# Altium footprint library Barun Gas Control.PcbLib: 16 footprints
Each footprint in its own frame and in the unit in brackets; x right, y up, seen from the top. Pads: shape width x height; smd on the part's side, far side on the other; paste and mask are expansions set on the pad; w line width, h text height; cw(c..) or ccw(c..) is an arc to the next point about the centre after c.
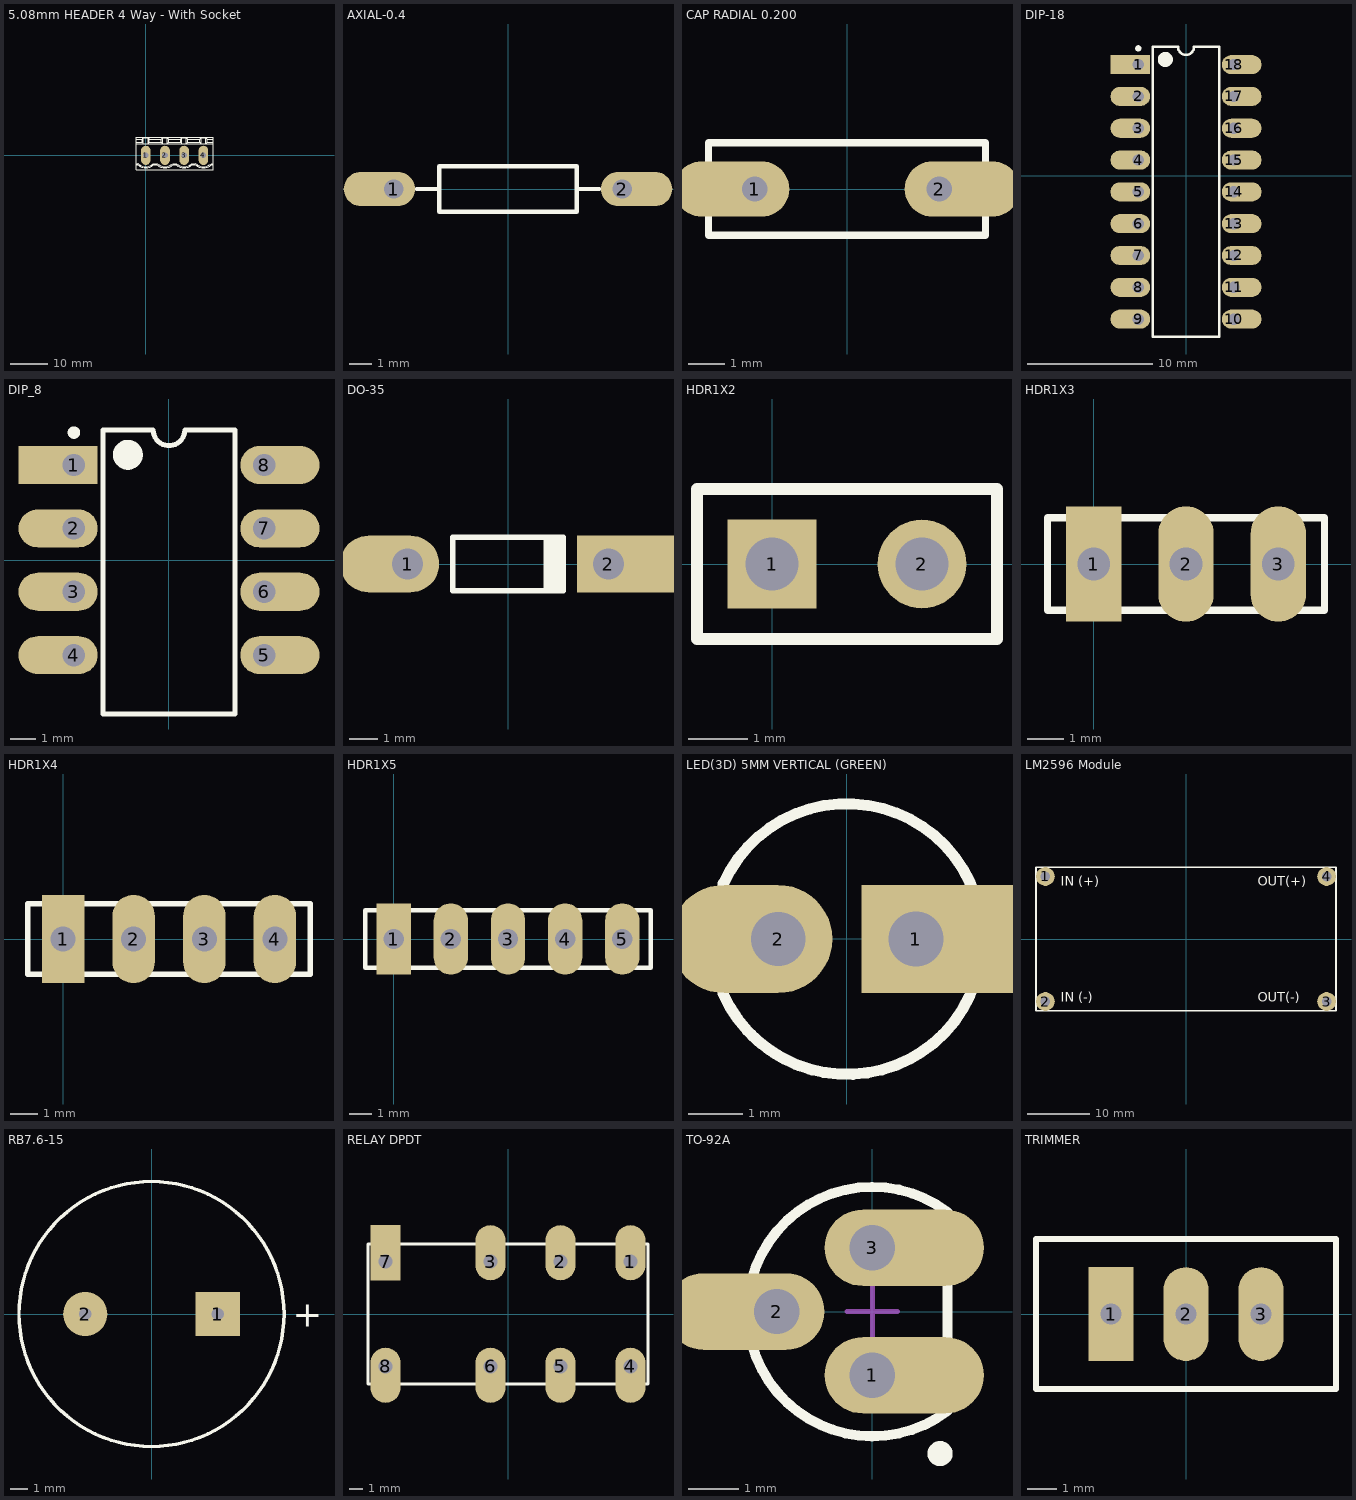
[diagram p0: the footprints below, top view; thin cyan lines are the x and y axes]

## 5.08mm HEADER 4 Way - With Socket [mm] "PHOENIX CONTACT 1758034 & 1758035"
pads (4):
  oval 2.54x5.08 hole 1.5: 1(0,0) 2(5.08,0) 3(10.16,0) 4(15.24,0)
Top Overlay:
  lines w0.127: -2.54,-2.491 -2.154,-2.491 ; -2.54,-2.491 -2.54,-2.191 ; -2.54,-2.491 -2.54,-3.861 -1.5,-3.861 1.5,-3.861 3.58,-3.861 6.58,-3.861 8.66,-3.861 11.66,-3.861 13.74,-3.861 16.74,-3.861 17.78,-3.861 17.78,-2.491 ; -2.54,-2.191 -2.04,-2.191 ; -2.54,-2.191 -2.54,-0.192 -2.54,0.009 -2.54,0.21 -2.54,3.103 ; -2.54,3.103 -2.54,3.414 ; -2.54,3.103 -0.644,3.103 ; -2.54,3.414 -2.54,3.809 -2.54,4.239 ; -2.54,3.414 -0.975,3.414 ; -2.54,4.239 -0.975,4.239 ; -2.54,4.239 -2.54,4.739 17.78,4.739 17.78,4.239 ; -2.154,-2.491 ccw(c0,0.009) 2.154,-2.491 ; -2.154,-2.491 -2.126,-2.415 -2.098,-2.341 cw(c13.682,-8.357) -2.04,-2.191 ; -2.04,-2.191 ccw(c0,0.009) 2.04,-2.191 ; -0.975,3.414 -0.644,3.103 ; -0.975,3.414 -0.975,4.239 ; -0.975,4.239 -0.605,4.712 ; -0.644,3.103 -0.605,3.103 ; -0.605,3.103 0.605,3.103 ; -0.605,3.103 -0.605,4.712 ; -0.605,4.712 0.605,4.712 ; 0.605,3.103 0.644,3.103 ; 0.605,3.103 0.605,4.712 ; 0.605,4.712 0.975,4.239 ; 0.644,3.103 0.975,3.414 ; 0.644,3.103 4.436,3.103 ; 0.975,3.414 0.975,4.239 ; 0.975,3.414 4.105,3.414 ; 0.975,4.239 4.105,4.239 ; 2.04,-2.191 3.04,-2.191 ; 2.04,-2.191 2.069,-2.265 2.098,-2.341 cw(c-15.111,-8.902) 2.154,-2.491 ; 2.154,-2.491 2.926,-2.491 ; 2.926,-2.491 ccw(c5.08,0.009) 7.234,-2.491 ; 2.926,-2.491 2.954,-2.416 2.982,-2.341 cw(c18.814,-8.377) 3.04,-2.191 ; 3.04,-2.191 ccw(c5.08,0.009) 7.12,-2.191 ; 4.105,3.414 4.436,3.103 ; 4.105,3.414 4.105,4.239 ; 4.105,4.239 4.475,4.712 ; 4.436,3.103 4.475,3.103 ; 4.475,3.103 5.685,3.103 ; 4.475,3.103 4.475,4.712 ; 4.475,4.712 5.685,4.712 ; 5.685,3.103 5.724,3.103 ; 5.685,3.103 5.685,4.712 ; 5.685,4.712 6.055,4.239 ; 5.724,3.103 6.055,3.414 ; 5.724,3.103 9.516,3.103 ; 6.055,3.414 9.185,3.414 ; 6.055,3.414 6.055,4.239 ; 6.055,4.239 9.185,4.239 ; 7.12,-2.191 8.12,-2.191 ; 7.12,-2.191 7.149,-2.265 7.178,-2.341 cw(c-10.031,-8.902) 7.234,-2.491 ; 7.234,-2.491 8.006,-2.491 ; 8.006,-2.491 ccw(c10.16,0.009) 12.314,-2.491 ; 8.006,-2.491 8.034,-2.415 8.062,-2.341 cw(c23.842,-8.357) 8.12,-2.191 ; 8.12,-2.191 ccw(c10.16,0.009) 12.2,-2.191 ; 9.185,3.414 9.516,3.103 ; 9.185,3.414 9.185,4.239 ; 9.185,4.239 9.555,4.712 ; 9.516,3.103 9.555,3.103 ; 9.555,3.103 10.765,3.103 ; 9.555,3.103 9.555,4.712 ; 9.555,4.712 10.765,4.712 ; 10.765,3.103 10.804,3.103 ; 10.765,3.103 10.765,4.712 ; 10.765,4.712 11.135,4.239 ; 10.804,3.103 14.596,3.103 ; 10.804,3.103 11.135,3.414 ; 11.135,3.414 14.265,3.414 ; 11.135,3.414 11.135,4.239 ; 11.135,4.239 14.265,4.239 ; 12.2,-2.191 13.2,-2.191 ; 12.2,-2.191 12.229,-2.265 12.258,-2.341 cw(c-4.951,-8.902) 12.314,-2.491 ; 12.314,-2.491 13.086,-2.491 ; 13.086,-2.491 ccw(c15.24,0.009) 17.394,-2.491 ; 13.086,-2.491 13.114,-2.415 13.142,-2.341 cw(c28.922,-8.357) 13.2,-2.191 ; 13.2,-2.191 ccw(c15.24,0.009) 17.28,-2.191 ; 14.265,3.414 14.596,3.103 ; 14.265,3.414 14.265,4.239 ; 14.265,4.239 14.635,4.712 ; 14.596,3.103 14.635,3.103 ; 14.635,3.103 15.845,3.103 ; 14.635,3.103 14.635,4.712 ; 14.635,4.712 15.845,4.712 ; 15.845,3.103 15.884,3.103 ; 15.845,3.103 15.845,4.712 ; 15.845,4.712 16.215,4.239 ; 15.884,3.103 17.78,3.103 ; 15.884,3.103 16.215,3.414 ; 16.215,3.414 17.78,3.414 ; 16.215,3.414 16.215,4.239 ; 16.215,4.239 17.78,4.239 ; 17.28,-2.191 17.78,-2.191 ; 17.28,-2.191 17.309,-2.265 17.338,-2.341 cw(c0.196,-8.877) 17.394,-2.491 ; 17.394,-2.491 17.78,-2.491 ; 17.78,-2.491 17.78,-2.191 ; 17.78,-2.191 17.78,0.459 17.78,0.659 17.78,0.784 17.78,0.934 17.78,1.398 17.78,1.577 17.78,1.615 17.78,1.642 17.78,1.727 17.78,1.937 17.78,2.021 17.78,2.049 17.78,2.087 17.78,2.099 17.78,2.266 17.78,3.002 17.78,3.103 ; 17.78,3.103 17.78,3.109 17.78,3.309 17.78,3.414 ; 17.78,3.414 17.78,3.809 17.78,4.239
3D body: height 11.6, standoff -4.3, extent -2.54,-3.861 17.78,4.739
3D body: height 22, standoff 3.8, extent -2.54,-3.861 17.78,11.139

## AXIAL-0.4 [mil] "Axial Device, Thru-Hole; 2 Leads; 0.4 in Pin Spacing"
height 80
pads (2):
  oval 125x60 hole 33.46 copper offset -25,0: 1(-200,0)
  oval 125x60 hole 33.46 copper offset 25,0: 2(200,0)
Top Overlay:
  lines w7.87: -160,0 -120,0 ; 120,0 160,0 ; -120,-40 -120,40 120,40 120,-40 -120,-40

## CAP RADIAL 0.200 [mil]
pads (2):
  oval 125x60 hole 27.56 copper offset -25,0: 1(-100,0)
  oval 125x60 hole 27.56 copper offset 25,0: 2(100,0)
Top Overlay:
  lines w7.87: -150,-50 150,-50 150,50 -150,50 -150,-50
3D body: height 257.48, standoff -98.43, extent -109.84,-49.21 106.7,49.22

## DIP-18 [mil]
pads (18):
  rect 125x60 hole 35.43 copper offset -25,0: 1(-150,350)
  oval 125x60 hole 35.43 copper offset -25,0: 2(-150,250) 3(-150,150) 4(-150,50) 5(-150,-50) 6(-150,-150) 7(-150,-250) 8(-150,-350) 9(-150,-450)
  oval 125x60 hole 35.43 copper offset 25,0: 10(150,-450) 11(150,-350) 12(150,-250) 13(150,-150) 14(150,-50) 15(150,50) 16(150,150) 17(150,250) 18(150,350)
Top Overlay:
  circle w23.62: c-64.96,366.14 r11.81
  circle w9.84: c-150,401.18 r4.92
  lines w7.87: 104.33,-405.51 104.33,405.51 25,405.51 cw(c0,405.51) -25,405.51 -104.33,405.51 -104.33,-405.51 -104.33,-505.51 ; 104.33,-400 104.33,-505.51 ; -104.33,-505.51 104.33,-505.51 ; -104.33,-505.51 104.33,-505.51
3D body: height 211, standoff -61.41, extent -160.57,-510.24 168.69,409.76

## DIP_8 [mil]
pads (8):
  rect 125x60 hole 35.43 copper offset -25,0: 1(-150,150)
  oval 125x60 hole 35.43 copper offset -25,0: 2(-150,50) 3(-150,-50) 4(-150,-150)
  oval 125x60 hole 35.43 copper offset 25,0: 5(150,-150) 6(150,-50) 7(150,50) 8(150,150)
Top Overlay:
  circle w9.84: c-150,201.18 r4.92
  circle w23.62: c-64.96,166.14 r11.81
  lines w7.87: -104.33,-147.64 -104.33,205.51 -25,205.51 ccw(c0,205.51) 25,205.51 104.33,205.51 104.33,-137.4 104.33,-242.91 ; -104.33,-142.91 -104.33,-242.91 ; -104.33,-242.91 104.33,-242.91 ; -104.33,-242.91 104.33,-242.91
3D body: height 174.84, standoff -95.16, extent -155,-225 155,225

## DO-35 [mm] "Diode, Axial; Body 3.8 x 1.9 mm (LxDia. max), Lead Dia. 0.53 mm (max)"
height 1.9
pads (2):
  oval 3.5x2 hole 1.1 copper offset -0.635,0: 1(-3.55,0)
  rect 3.5x2 hole 1.1 copper offset 0.635,0: 2(3.55,0)
Top Overlay:
  rectangle: 1.25,-0.95 2.05,0.95
  lines w0.2: 1.95,-0.95 -1.95,-0.95 -1.95,0.95 1.95,0.95

## HDR1X2 [mm] "Connector; Header; 2 Position"
pads (2):
  rect 1.5x1.5 hole 0.9: 1(0,0)
  round 1.5 hole 0.9: 2(2.54,0)
Top Overlay:
  lines w0.2: -1.27,-1.27 3.81,-1.27 3.81,1.27 -1.27,1.27 -1.27,-1.27

## HDR1X3 [mil] "Connector; Header; 3 Position"
pads (3):
  rect 60x125 hole 35.43: 1(0,0)
  oval 60x125 hole 35.43: 2(100,0) 3(200,0)
Top Overlay:
  lines w7.87: -50,-50 250,-50 250,50 -50,50 -50,-50

## HDR1X4 [mil] "Connector; Header; 4 Position"
pads (4):
  rect 60x125 hole 35.43: 1(0,0)
  oval 60x125 hole 35.43: 2(100,0) 3(200,0) 4(300,0)
Top Overlay:
  lines w7.87: -50,-50 350,-50 350,50 -50,50 -50,-50

## HDR1X5 [mil] "Connector; Header; 5 Position"
pads (5):
  rect 60x125 hole 35.43: 1(0,0)
  oval 60x125 hole 35.43: 2(100,0) 3(200,0) 4(300,0) 5(400,0)
Top Overlay:
  lines w7.87: -50,-50 450,-50 450,50 -50,50 -50,-50

## LED(3D) 5MM VERTICAL (GREEN) [mm]
pads (2):
  rect 3x2 hole 1.016 copper offset 0.5,0: 1(1.272,-0.007)
  oval 3x2 hole 1 copper offset -0.5,0: 2(-1.268,-0.007)
Top Overlay:
  lines w0.203: -2.281,-1.016 -2.286,-1.016 ; -1.766,-1.775 ccw(c0.002,-0.007) 1.769,-1.775 ; -2.286,-1.016 ccw(c0.002,-0.007) -2.281,1.014 -2.286,1.014 -2.286,-1.016
3D body: height 10.5, standoff 5.5, extent -2.5,-2.479 2.474,2.5
3D body: height 8, standoff 4, extent -2.503,-2.49 2.477,2.5
3D body: height 4, standoff -2, extent -1.65,-0.25 -0.9,0.25
3D body: height 4, standoff -2, extent 0.9,-0.25 1.65,0.25

## LM2596 Module [mm]
height 1.2
pads (4):
  round 3 hole 1.524: 1(-22.5,10) 2(-22.5,-10) 3(22.5,-10) 4(22.5,10)
Top Overlay:
  lines w0.254: -24,-11.5 0,-11.5 24,-11.5 24,0 24,11.5 0,11.5 -24,11.5 -24,0 -24,-11.5
  text "OUT(-)" at 11.5,-10 h1.52
  text "OUT(+)" at 11.5,8.5 h1.52
  text "IN (-)" at -20,-10 h1.52
  text "IN (+)" at -20,8.5 h1.52

## RB7.6-15 [mm] "Polarized Capacitor (Radial); 2 Leads"
pads (2):
  rect 2.54x2.54 hole 0.7: 1(3.81,0)
  round 2.54 hole 0.7: 2(-3.81,0)
Top Overlay:
  circle w0.2: c0,0 r7.62
  text "+" at 8.132,-0.737 h1.5

## RELAY DPDT [mm]
pads (8):
  oval 2.2x4 hole 1 copper offset 0,0.635: 1(8.89,3.81) 2(3.81,3.81) 3(-1.27,3.81)
  oval 2.2x4 hole 1 copper offset 0,-0.635: 4(8.89,-3.81) 5(3.81,-3.81) 6(-1.27,-3.81) 8(-8.89,-3.81)
  rect 2.2x4 hole 1 copper offset 0,0.635: 7(-8.89,3.81)
Top Overlay:
  lines w0.2: -10.16,-5.08 -10.16,5.08 10.16,5.08 10.16,-5.08 -10.16,-5.08

## TO-92A [mil] "TO, Flat Index; 3 In-Line, Axial Leads; Body Dia. 4.5mm; Leads 0.51 x 0.48 mm (max)"
height 270.08
pads (3):
  oval 125x60 hole 35.43 copper offset 25,0: 1(0,-50) 3(0,50)
  oval 125x60 hole 35.43 copper offset -25,0: 2(-75,0)
Top Overlay:
  circle w9.84: c53.15,-111.42 r4.92
  lines w7.87: 59.06,-77.95 cw(c0,0) 59.06,77.95 59.05,-77.95
Mechanical 13:
  lines w3.94: 59.06,-77.95 cw(c0,0) 59.06,77.95 59.05,-77.95
Mechanical 15:
  lines w3.94: -19.68,0 19.68,0 ; 0,-19.68 0,19.69
3D body: height 270.08, standoff 86.61, extent -98.29,-98.29 59.11,98.29

## TRIMMER [mil] "Thru-Hole; 3 Leads"
pads (3):
  rect 60x125 hole 27.56: 1(-100,0)
  oval 60x125 hole 27.56: 2(0,0) 3(100,0)
Top Overlay:
  lines w7.87: -200,-100 -200,100 200,100 ; -200.01,-99.8 199.99,-99.8 199.99,100.2
3D body: height 455.23, standoff -299.5, extent -187.61,-94.88 187.59,95.27